# Altium schematic symbol library TLV2379IDR.SchLib: 2 symbols
Pins are listed as number, name and electrical type; pins without a type are passive.

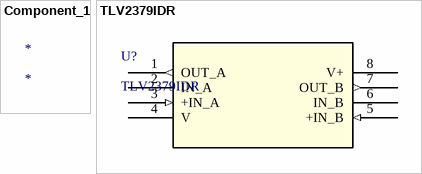
[diagram p0: symbols Component_1 to TLV2379IDR]

## Component_1
designator *

## TLV2379IDR
designator U?
No Description Available; Mfr_Name: Texas Instruments; Copyright: Copyright (C) 2022 Ultra Librarian. All rights reserved.; Manufacturer_Part_Number: TLV2379IDR; Digi-Key_Part_Number_1: 296-44540-1-ND; Digi-Key_Part_Number_2: 296-44540-2-ND; Digi-Key_Part_Number_3: 296-44540-6-ND; RefDes: RefDes; Type: DEV
footprint D8_TEX
pins: 1 OUT_A (out), 2 IN_A, 3 +IN_A (in), 4 V, 5 +IN_B (in), 6 IN_B, 7 OUT_B (out), 8 V+ (power)